# Altium footprint library TSSOP-30.PcbLib: 1 footprints
Each footprint in its own frame and in the unit in brackets; x right, y up, seen from the top. Pads: shape width x height; smd on the part's side, far side on the other; paste and mask are expansions set on the pad; w line width, h text height; cw(c..) or ccw(c..) is an arc to the next point about the centre after c.
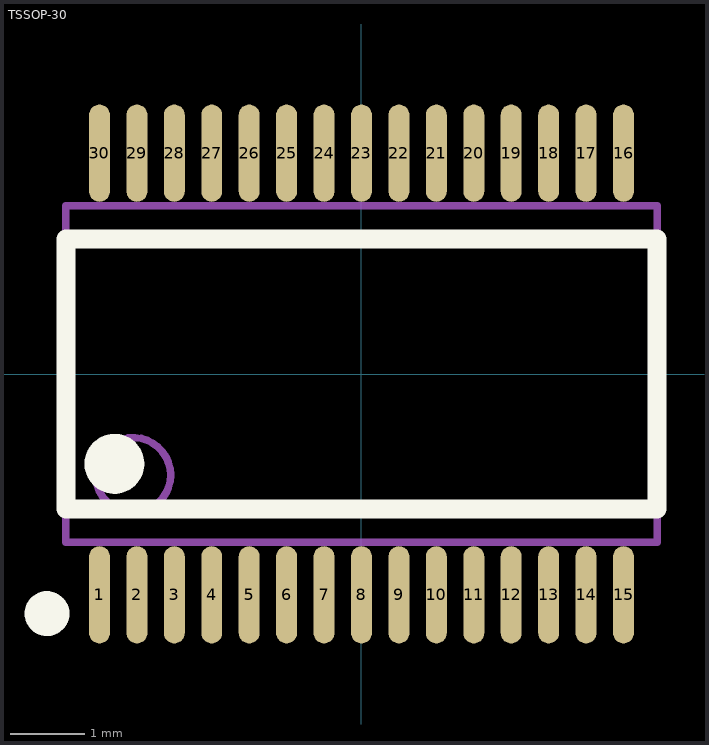
[diagram p0: the footprint, top view; thin cyan lines are the x and y axes]

## TSSOP-30 [mm]
pads (30):
  oval 0.28x1.3 smd mask+0.051: 1(-3.5,-2.95) 2(-3,-2.95) 3(-2.5,-2.95) 4(-2,-2.95) 5(-1.5,-2.95) 6(-1,-2.95) 7(-0.5,-2.95) 8(0,-2.95) 9(0.5,-2.95) 10(1,-2.95) 11(1.5,-2.95) 12(2,-2.95) 13(2.5,-2.95) 14(3,-2.95) 15(3.5,-2.95) 16(3.5,2.95) 17(3,2.95) 18(2.5,2.95) 19(2,2.95) 20(1.5,2.95) 21(1,2.95) 22(0.5,2.95) 23(0,2.95) 24(-0.5,2.95) 25(-1,2.95) 26(-1.5,2.95) 27(-2,2.95) 28(-2.5,2.95) 29(-3,2.95) 30(-3.5,2.95)
Top Overlay:
  circle w0.3: c-4.2,-3.2 r0.15
  circle w0.4: c-3.3,-1.2 r0.2
  lines w0.254: -3.95,-1.8 -3.95,1.8 3.95,1.8 3.95,-1.8 -3.95,-1.8
Mechanical 13:
  circle w0.1: c-3.05,-1.35 r0.5
  lines w0.1: -3.95,-2.25 -3.95,2.25 3.95,2.25 3.95,-2.25 -3.95,-2.25